# EAGLE library part DRV8412DDWR (library DRV8412DDWR)
6A Dual Brushed DC or Single Bipolar Stepper Motor Driver (PWM Ctrl) Source: Datasheet <http://www.ti.com/lit/gpn/drv8412>
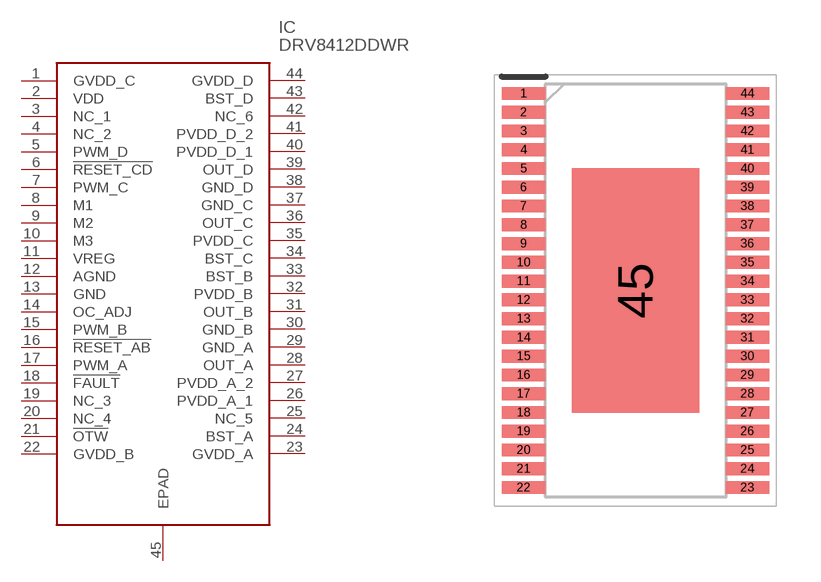
[diagram p0: symbol with the pads of SOP64P810X120-45N; footprint SOP64P810X120-45N]

Designator prefix IC

## DRV8412DDWR (Description: 6A Dual Brushed DC or Single Bipolar Stepper Motor Driver (PWM Ctrl); Height: 1.2mm; Manufacturer_Name: Texas Instruments; Manufacturer_Part_Number: DRV8412DDWR)  [SOP64P810X120-45N]
1  GVDD_C
2  VDD
3  NC_1
4  NC_2
5  PWM_D
6  !RESET_CD
7  PWM_C
8  M1
9  M2
10  M3
11  VREG
12  AGND
13  GND
14  OC_ADJ
15  PWM_B
16  !RESET_AB
17  PWM_A
18  !FAULT
19  NC_3
20  NC_4
21  !OTW
22  GVDD_B
23  GVDD_A
24  BST_A
25  NC_5
26  PVDD_A_1
27  PVDD_A_2
28  OUT_A
29  GND_A
30  GND_B
31  OUT_B
32  PVDD_B
33  BST_B
34  BST_C
35  PVDD_C
36  OUT_C
37  GND_C
38  GND_D
39  OUT_D
40  PVDD_D_1
41  PVDD_D_2
42  NC_6
43  BST_D
44  GVDD_D
45  EPAD

## Footprint SOP64P810X120-45N (pad centres in mm)
DDW (R-PDSO-G44)
smd 1.475 x 0.435: 1 -3.788,6.668; 2 -3.788,6.032; 3 -3.788,5.398; 4 -3.788,4.762; 5 -3.788,4.128; 6 -3.788,3.492; 7 -3.788,2.858; 8 -3.788,2.222; 9 -3.788,1.588; 10 -3.788,0.952; 11 -3.788,0.318; 12 -3.788,-0.318; 13 -3.788,-0.952; 14 -3.788,-1.588; 15 -3.788,-2.222; 16 -3.788,-2.858; 17 -3.788,-3.492; 18 -3.788,-4.128; 19 -3.788,-4.762; 20 -3.788,-5.398; 21 -3.788,-6.032; 22 -3.788,-6.668; 23 3.788,-6.668; 24 3.788,-6.032; 25 3.788,-5.398; 26 3.788,-4.762; 27 3.788,-4.128; 28 3.788,-3.492; 29 3.788,-2.858; 30 3.788,-2.222; 31 3.788,-1.588; 32 3.788,-0.952; 33 3.788,-0.318; 34 3.788,0.318; 35 3.788,0.952; 36 3.788,1.588; 37 3.788,2.222; 38 3.788,2.858; 39 3.788,3.492; 40 3.788,4.128; 41 3.788,4.762; 42 3.788,5.398; 43 3.788,6.032; 44 3.788,6.668
smd 4.31 x 8.26: 45 0,0